# Altium footprint library QFN40P250X450X80_HS-31N.PcbLib: 1 footprints
Each footprint in its own frame and in the unit in brackets; x right, y up, seen from the top. Pads: shape width x height; smd on the part's side, far side on the other; paste and mask are expansions set on the pad; w line width, h text height; cw(c..) or ccw(c..) is an arc to the next point about the centre after c.
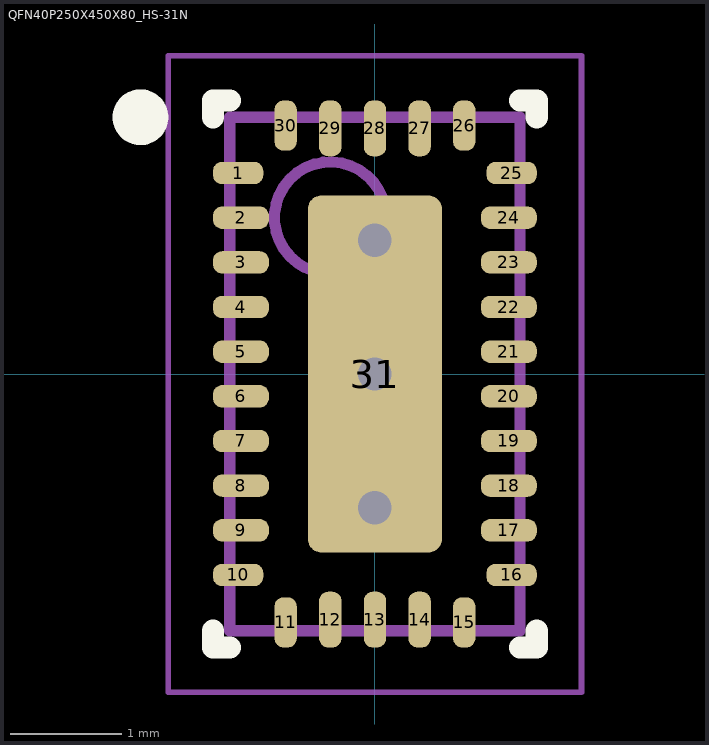
[diagram p0: the footprint, top view; thin cyan lines are the x and y axes]

## QFN40P250X450X80_HS-31N [mm] "QFN, 30-Leads, Body 2.50x4.50mm, Pitch 0.40mm, Thermal Pad 1.20x3.20mm, IPC Medium Density"
height 0.8
pads (31):
  rrect80% 0.45x0.2 smd mask+0.05: 1(-1.225,1.8) 10(-1.225,-1.8) 16(1.225,-1.8) 25(1.225,1.8)
  rrect80% 0.5x0.2 smd mask+0.05: 2(-1.2,1.4) 3(-1.2,1) 4(-1.2,0.6) 5(-1.2,0.2) 6(-1.2,-0.2) 7(-1.2,-0.6) 8(-1.2,-1) 9(-1.2,-1.4) 17(1.2,-1.4) 18(1.2,-1) 19(1.2,-0.6) 20(1.2,-0.2) 21(1.2,0.2) 22(1.2,0.6) 23(1.2,1) 24(1.2,1.4)
  rrect80% 0.2x0.45 smd mask+0.05: 11(-0.8,-2.225) 15(0.8,-2.225) 26(0.8,2.225) 30(-0.8,2.225)
  rrect80% 0.2x0.5 smd mask+0.05: 12(-0.4,-2.2) 13(0,-2.2) 14(0.4,-2.2) 27(0.4,2.2) 28(0,2.2) 29(-0.4,2.2)
  rrect20% 1.2x3.2 smd mask+0.05: 31(0,0)
via 0,0 diameter 0.6 hole 0.3
via 0,-1.2 diameter 0.6 hole 0.3
via 0,1.2 diameter 0.6 hole 0.3
Top Overlay:
  circle w0.25: c-2.1,2.3 r0.125
  lines w0.2: -1.45,-2.3 -1.45,-2.45 -1.3,-2.45 ; -1.45,2.3 -1.45,2.45 -1.3,2.45 ; 1.3,-2.45 1.45,-2.45 1.45,-2.3 ; 1.3,2.45 1.45,2.45 1.45,2.3
Top Assembly:
  circle w0.1: c-0.4,1.4 r0.5
  lines w0.1: -1.3,-2.3 -1.3,2.3 1.3,2.3 1.3,-2.3 -1.3,-2.3
Top Courtyard:
  lines w0.05: -1.85,-2.85 -1.85,2.85 1.85,2.85 1.85,-2.85 -1.85,-2.85
  lines w0.1: -0.5,0 0.5,0 ; 0,-0.5 0,0.5
3D body "QFN40P250X450X80_HS-31N.step": height 0.8, standoff 0, extent -1.35,-2.35 1.35,2.35